# EAGLE library part ADIS1648X/ADIS1649X (library ADI_iSensor_Libraries)
ADIS1649x Tactical Grade, Six Degrees of Freedom Inertial Sensor The ADIS1649x is a complete inertial system that includes a triaxis gyroscope and a triaxis accelerometer. Each inertial sensor in the ADIS1649x combines industry leading iMEMS® technology with signal conditioning that optimizes dynamic performance. The factory calibration characterizes each sensor for sensitivity, bias, alignment, and linear acceleration (gyroscope bias). As a result, each sensor has its own dynamic compensation formulas that provide accurate sensor measurements. The ADIS1649x provides a simple, cost effective method for integrating accurate, multiaxis inertial sensing into industrial systems, especially when compared with the complexity and investment associated with discrete designs. All necessary motion testing and calibration are part of the production process at the factory, greatly reducing system integration time. Tight orthogonal alignment simplifies inertial frame alignment in navigation systems. The serial peripheral interface (SPI) and register structure provide a simple interface for data collection and configuration control. The footprint and connector system of the ADIS1649x is compatible with previous generations such as the ADIS16375, ADIS16480, ADIS16485, ADIS16488A, and ADIS16490. The ADIS1649x is available in an aluminum package that is approximately 47 mm × 44 mm × 14 mm and includes a standard connector interface. You are welcome to use this library for commercial purposes. For attribution, I ask that you reach out by sending me a link to the product being sold. My e-mail address is: juan@highcurrent.io
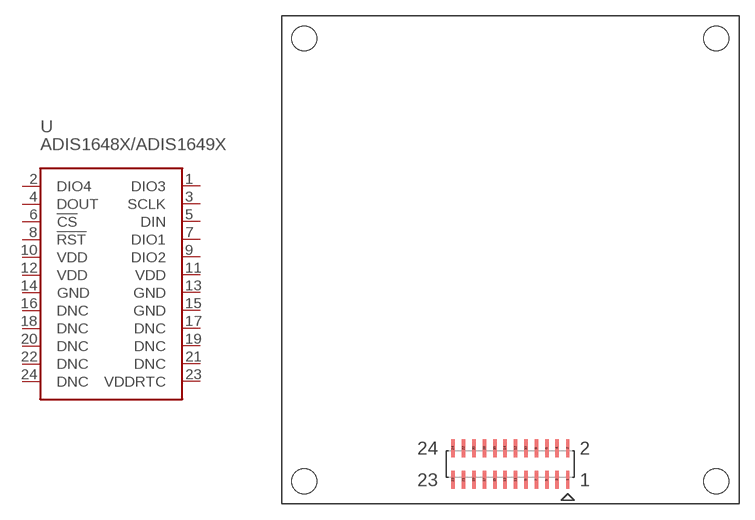
[diagram p2: symbol with the pads of ADIS1648X; footprint ADIS1648X]

Designator prefix U

## ADIS1648X/ADIS1649X  [ADIS1648X]
1  DIO3
2  DIO4
3  SCLK
4  DOUT
5  DIN
6  !CS
7  DIO1
8  !RST
9  DIO2
10  VDD
11  VDD
12  VDD
13  GND
14  GND
15  GND
16  DNC
17  DNC
18  DNC
19  DNC
20  DNC
21  DNC
22  DNC
23  VDDRTC
24  DNC

## Footprint ADIS1648X (pad centres in mm)
smd 0.33 x 1.727: 1 5.512,-1.524; 2 5.512,1.524; 3 4.496,-1.524; 4 4.496,1.524; 5 3.505,-1.524; 6 3.505,1.524; 7 2.489,-1.524; 8 2.489,1.524; 9 1.499,-1.524; 10 1.499,1.524; 11 0.508,-1.524; 12 0.508,1.524; 13 -0.508,-1.524; 14 -0.508,1.524; 15 -1.499,-1.524; 16 -1.499,1.524; 17 -2.489,-1.524; 18 -2.489,1.524; 19 -3.505,-1.524; 20 -3.505,1.524; 21 -4.496,-1.524; 22 -4.496,1.524; 23 -5.512,-1.524; 24 -5.512,1.524
hole 2.4 at -19.8,-1.642
hole 2.4 at 19.8,-1.642
hole 2.4 at 19.8,40.958
hole 2.4 at -19.8,40.958